# Altium footprint library MCU.PcbLib: 2 footprints
Each footprint in its own frame and in the unit in brackets; x right, y up, seen from the top. Pads: shape width x height; smd on the part's side, far side on the other; paste and mask are expansions set on the pad; w line width, h text height; cw(c..) or ccw(c..) is an arc to the next point about the centre after c.
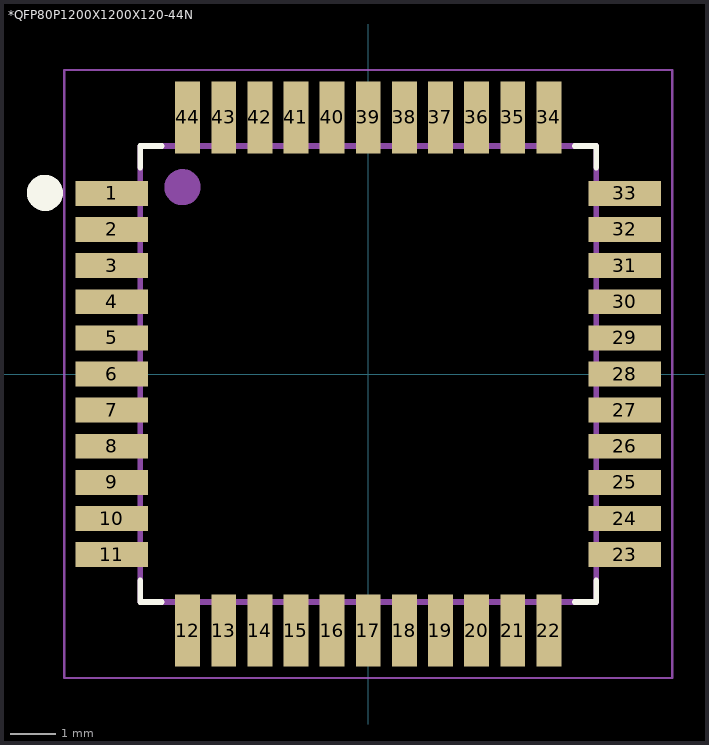
[diagram p0: the footprints below, top view; thin cyan lines are the x and y axes]

## *QFP80P1200X1200X120-44N [mm]
pads (44):
  rect 1.6x0.55 smd: 1(-5.68,4) 2(-5.68,3.2) 3(-5.68,2.4) 4(-5.68,1.6) 5(-5.68,0.8) 6(-5.68,0) 7(-5.68,-0.8) 8(-5.68,-1.6) 9(-5.68,-2.4) 10(-5.68,-3.2) 11(-5.68,-4) 23(5.68,-4) 24(5.68,-3.2) 25(5.68,-2.4) 26(5.68,-1.6) 27(5.68,-0.8) 28(5.68,0) 29(5.68,0.8) 30(5.68,1.6) 31(5.68,2.4) 32(5.68,3.2) 33(5.68,4)
  rect 0.55x1.6 smd: 12(-4,-5.68) 13(-3.2,-5.68) 14(-2.4,-5.68) 15(-1.6,-5.68) 16(-0.8,-5.68) 17(0,-5.68) 18(0.8,-5.68) 19(1.6,-5.68) 20(2.4,-5.68) 21(3.2,-5.68) 22(4,-5.68) 34(4,5.68) 35(3.2,5.68) 36(2.4,5.68) 37(1.6,5.68) 38(0.8,5.68) 39(0,5.68) 40(-0.8,5.68) 41(-1.6,5.68) 42(-2.4,5.68) 43(-3.2,5.68) 44(-4,5.68)
Top Overlay:
  circle w0.4: c-7.16,4.01 r0.2
  lines w0.127: -5.05,-4.572 -5.05,-5.05 -4.572,-5.05 ; -5.05,4.572 -5.05,5.05 -4.572,5.05 ; 4.572,-5.05 5.05,-5.05 5.05,-4.572 ; 4.572,5.05 5.05,5.05 5.05,4.572
Mechanical 13:
  circle w0.4: c-4.112,4.137 r0.2
  circle w0.4: c-4.112,4.137 r0.2
  lines w0: -4.216,-5.055 -3.785,-5.055 -4.216,-5.055 ; -4.216,5.055 -3.785,5.055 -4.216,5.055 ; -3.429,-5.055 -2.972,-5.055 -3.429,-5.055 ; -3.429,5.055 -2.972,5.055 -3.429,5.055 ; -2.616,-5.055 -2.184,-5.055 -2.616,-5.055 ; -2.616,5.055 -2.184,5.055 -2.616,5.055 ; -1.829,-5.055 -1.372,-5.055 -1.829,-5.055 ; -1.829,5.055 -1.372,5.055 -1.829,5.055 ; -1.016,-5.055 -0.584,-5.055 -1.016,-5.055 ; -1.016,5.055 -0.584,5.055 -1.016,5.055 ; -0.229,-5.055 0.229,-5.055 -0.229,-5.055 ; -0.229,5.055 0.229,5.055 -0.229,5.055 ; 0.584,-5.055 1.016,-5.055 0.584,-5.055 ; 0.584,5.055 1.016,5.055 0.584,5.055 ; 1.372,-5.055 1.829,-5.055 1.372,-5.055 ; 1.372,5.055 1.829,5.055 1.372,5.055 ; 2.184,-5.055 2.616,-5.055 2.184,-5.055 ; 2.184,5.055 2.616,5.055 2.184,5.055 ; 2.972,-5.055 3.429,-5.055 2.972,-5.055 ; 2.972,5.055 3.429,5.055 2.972,5.055 ; 3.785,-5.055 4.216,-5.055 3.785,-5.055 ; 3.785,5.055 4.216,5.055 3.785,5.055 ; 5.055,-4.216 5.055,-3.785 5.055,-4.216 ; 5.055,-3.429 5.055,-2.972 5.055,-3.429 ; 5.055,-2.616 5.055,-2.184 5.055,-2.616 ; 5.055,-1.829 5.055,-1.372 5.055,-1.829 ; 5.055,-1.016 5.055,-0.584 5.055,-1.016 ; 5.055,-0.229 5.055,0.229 5.055,-0.229 ; 5.055,0.584 5.055,1.016 5.055,0.584 ; 5.055,1.372 5.055,1.829 5.055,1.372 ; 5.055,2.184 5.055,2.616 5.055,2.184 ; 5.055,2.972 5.055,3.429 5.055,2.972 ; 5.055,3.785 5.055,4.216 5.055,3.785
  lines w0.127: -5.05,-5.05 -5.05,5.05 ; -5.05,-5.05 5.05,-5.05 ; -5.05,-5.05 -5.05,5.05 ; -5.05,-5.05 5.05,-5.05 ; -5.05,5.05 5.05,5.05 ; -5.05,5.05 5.05,5.05 ; 5.05,-5.05 5.05,5.05 ; 5.05,-5.05 5.05,5.05
Mechanical 16:
  lines w0.05: -6.73,-6.73 -6.73,6.73 6.73,6.73 6.73,-6.73 -6.73,-6.73

## PCBComponent_1 [mm]